# Altium footprint library L-SPE-LPS6235.PcbLib: 1 footprints
Each footprint in its own frame and in the unit in brackets; x right, y up, seen from the top. Pads: shape width x height; smd on the part's side, far side on the other; paste and mask are expansions set on the pad; w line width, h text height; cw(c..) or ccw(c..) is an arc to the next point about the centre after c.
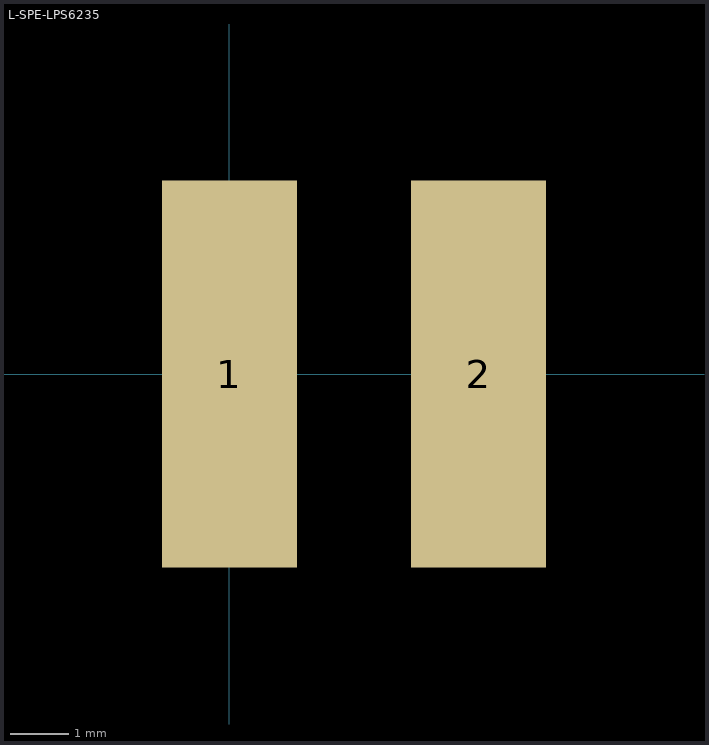
[diagram p0: the footprint, top view; thin cyan lines are the x and y axes]

## L-SPE-LPS6235 [mm]
pads (2):
  rect 2.3x6.6 smd: 1(0,0) 2(4.25,0)
3D body: height 3.5, standoff 0, extent -0.918,-3.077 5.288,3.129